# Altium schematic symbol library IC_Maxim_Electronics_MAX98357AETE+T_eec.SchLib: 1 symbol
Pins are listed as number, name and electrical type; pins without a type are passive.

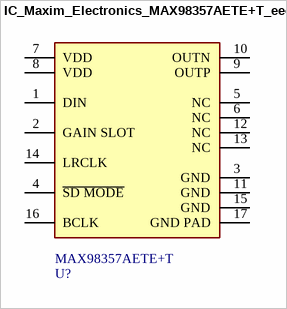
[diagram p0: symbol IC_Maxim_Electronics_MAX98357AETE+T_eec]

## IC_Maxim_Electronics_MAX98357AETE+T_eec
designator U?  Part Number: MAX98357AETE+T
IC Amplifier IC 2-Channel (Stereo) Class D 16-TQFN (3x3); Manufacturer: Maxim Electronics; Mfg Package Ident: 21-0896; helpURL: https://upverter.com/upn/revision/0f54a4b5bdb80fd2/; ComponentLink2Description: Datasheet; Temperature: +40°C to +85°C; Package: 21-0896; Supplier 2: Mouser; Price: 1.00367999051; Supplier 1: Digi-Key; ComponentLink1URL: https://upverter.com/upn/revision/0f54a4b5bdb80fd2/; Supplier Part Number 2: 700-MAX98357AETE+T; Supplier Part Number 1: MAX98357AETE+T-ND; ComponentLink1Description: Upverter; ComponentLink2URL: http://datasheets.maximintegrated.com/en/ds/MAX98357A-MAX98357B.pdf; RoHS: TRUE; Mouser Part Number: 700-MAX98357AETE+T; Temperature Range High: +85°C; Digikey Description: IC Amplifier IC 2-Channel (Stereo) Class D 16-TQFN (3x3); Digikey Part Number: MAX98357AETE+T-ND; Lead Free: yes; Temperature Range Low: +40°C
footprint Maxim_Electronics_21-0896_0
pins: 1 DIN, 2 GAIN SLOT, 3 GND, 4 ~{SD MODE}, 5 NC, 6 NC, 7 VDD, 8 VDD, 9 OUTP, 10 OUTN, 11 GND, 12 NC, 13 NC, 14 LRCLK, 15 GND, 16 BCLK, 17 GND PAD